# EAGLE library part ADA2472 (library cwParts)
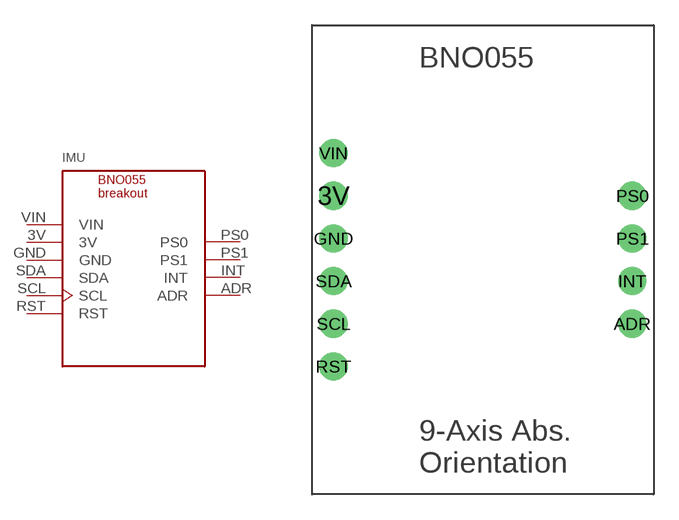
[diagram p2: symbol with the pads of ADA2472; footprint ADA2472]

Designator prefix IMU

## ADA2472  [ADA2472]
3V  3V  pwr
ADR  ADR  in
GND  GND  pwr
INT  INT  out
PS0  PS0  in
PS1  PS1  in
RST  RST  in
SCL  SCL  in
SDA  SDA
VIN  VIN  pwr

## Footprint ADA2472 (pad centres in mm)
drill 1 pad 1.676: 3V -8.89,3.81; ADR 8.89,-3.81; GND -8.89,1.27; INT 8.89,-1.27; PS0 8.89,3.81; PS1 8.89,1.27; RST -8.89,-6.35; SCL -8.89,-3.81; SDA -8.89,-1.27; VIN -8.89,6.35